# Altium footprint library B5B-PH-SM4-TB.PcbLib: 1 footprints
Each footprint in its own frame and in the unit in brackets; x right, y up, seen from the top. Pads: shape width x height; smd on the part's side, far side on the other; paste and mask are expansions set on the pad; w line width, h text height; cw(c..) or ccw(c..) is an arc to the next point about the centre after c.
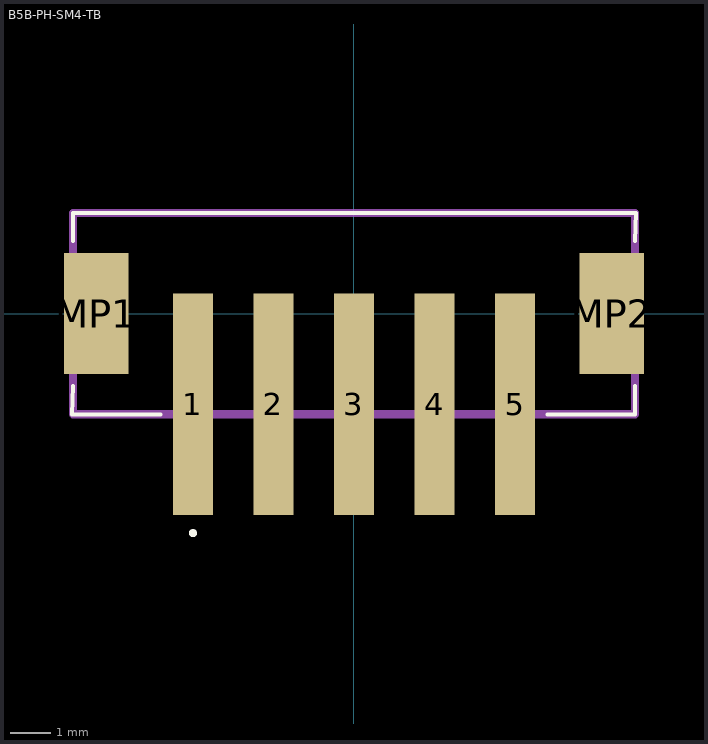
[diagram p0: the footprint, top view; thin cyan lines are the x and y axes]

## B5B-PH-SM4-TB [mm]
pads (7):
  rect 1x5.5 smd: 1(-4,-2.25) 2(-2,-2.25) 3(0,-2.25) 4(2,-2.25) 5(4,-2.25)
  rect 1.6x3 smd: MP1(-6.4,0) MP2(6.4,0)
Top Overlay:
  lines w0.1: -6.975,-1.8 -7,-2.5 -4.8,-2.5 ; -6.975,1.8 -6.975,2.5 7,2.5 6.975,1.8 ; 4.8,-2.5 6.975,-2.5 6.975,-1.8 ; -4,-5.5 ccw(c-4,-5.45) -4,-5.4 ccw(c-4,-5.45) -4,-5.5
Top Courtyard:
  lines w0.2: -6.975,-2.5 -6.975,2.5 6.975,2.5 6.975,-2.5 -6.975,-2.5
3D body "B5B-PH-SM4-TBT__LF__SN_.stp": height 6.7, standoff 0, extent -7.04,-4.9 7.04,2.5